# EAGLE library part 14PINJUKE (library Jukebox)
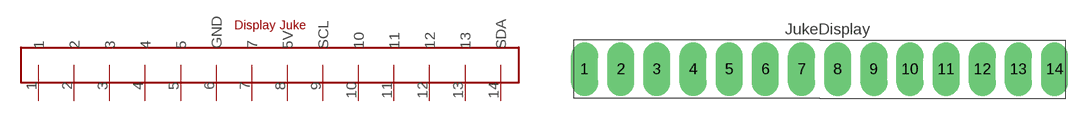
[diagram p0: symbol with the pads of 14PINJUKE; footprint 14PINJUKE]

Designator prefix -

## 14PINJUKE  [14PINJUKE]
1  1
2  2
3  3
4  4
5  5
6  GND
7  7
8  5V
9  SCL
10  10
11  11
12  12
13  13
14  SDA

## Footprint 14PINJUKE (pad centres in mm)
drill 1 pad 3 long: 1 -26,0; 2 -22,0; 3 -18,0; 4 -14,0; 5 -10,0; 6 -6,0; 7 -2,0; 8 2,0; 9 6,0; 10 10,0; 11 14,0; 12 18,0; 13 22,0; 14 26,0